# Altium schematic symbol library RP2040.SCHLIB: 17 symbols
Pins are listed as number, name and electrical type; pins without a type are passive.

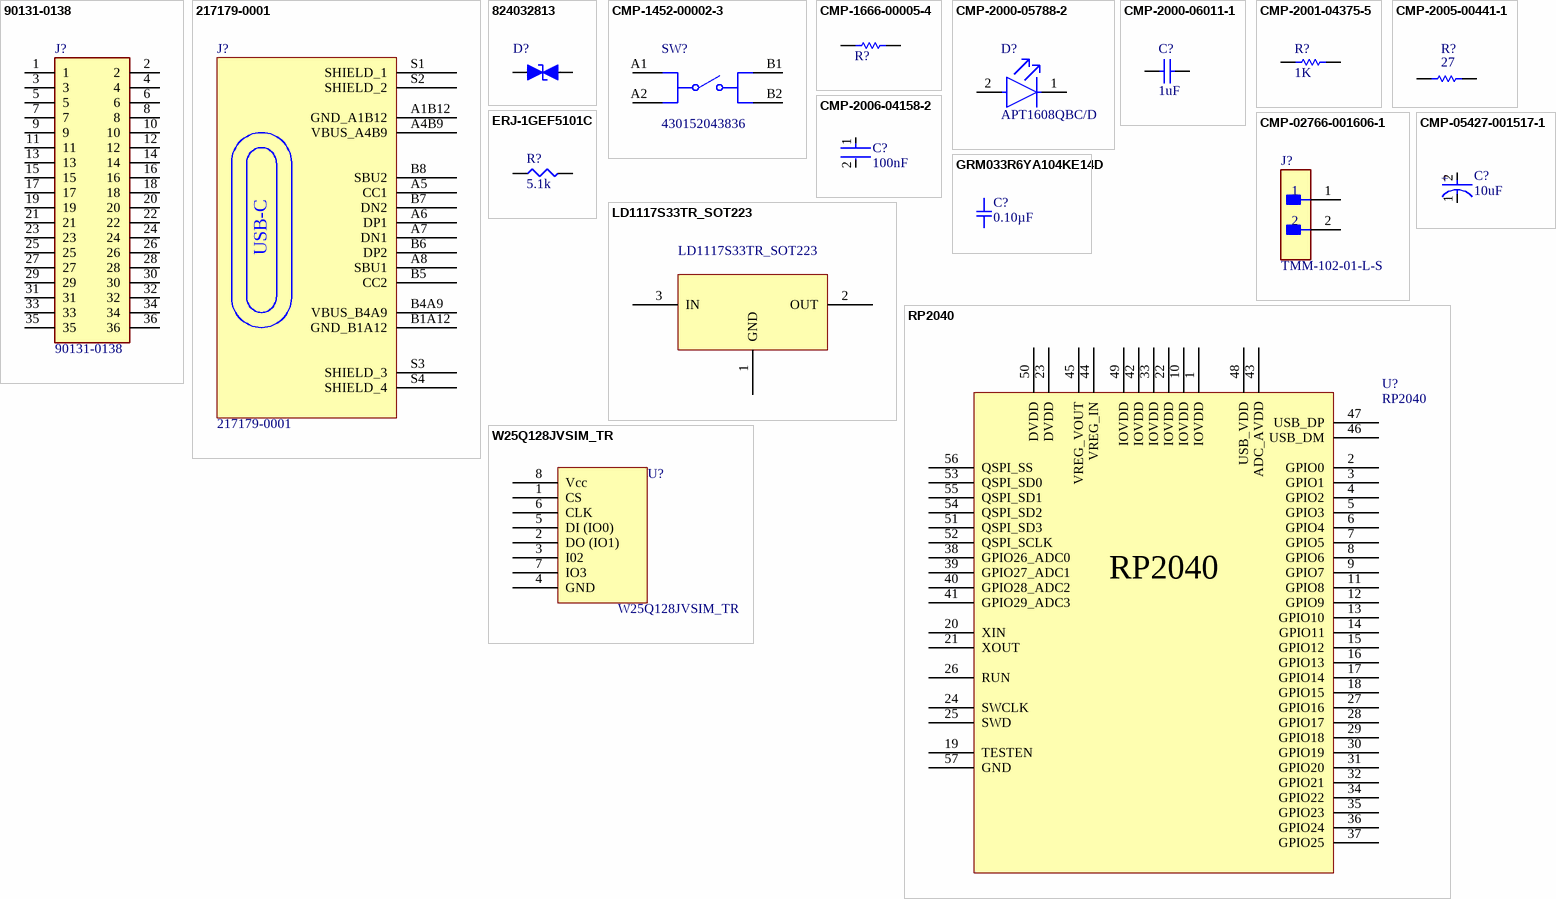
[diagram p0: symbols 90131-0138 to W25Q128JVSIM_TR]

## 90131-0138
designator J?
Header 2.54mm, dual row, vertical, 36w Molex C-GRID III Series, Series Number 90131, 2.54mm Pitch 36 Way 2 Row Straight Pin Header, Through Hole; Geometry.Height: 5.48mm; Mouser Part Number: 538-90131-0138; Mouser Price/Stock: https://www.mouser.co.uk/ProductDetail/Molex/90131-0138?qs=kEwmkoUtv7TTuQKvm8pfBw%3D%3D; Manufacturer_Name: Molex; Manufacturer_Part_Number: 90131-0138; Datasheet Link: https://datasheet.datasheetarchive.com/originals/distributors/Datasheets_SAMA/7a173d74aa55f13dc2780a0da764715b.pdf
footprint HDRV36W90P254_2X18_4572X508X548P
pins: 1, 2, 3, 4, 5, 6, 7, 8, 9, 10, 11, 12, 13, 14, 15, 16, 17, 18, 19, 20, 21, 22, 23, 24, 25, 26, 27, 28, 29, 30, 31, 32, 33, 34, 35, 36

## 217179-0001
designator J?
footprint FP-2171790001-MFG
footprint FP-2171790001-MFG
footprint FP-2171790001-MFG
footprint GCT_USB4110GFA
pins: A1B12 GND_A1B12, A4B9 VBUS_A4B9, A5 CC1, A6 DP1, A7 DN1, A8 SBU1, B1A12 GND_B1A12, B4A9 VBUS_B4A9, B5 CC2, B6 DP2, B7 DN2, B8 SBU2, S1 SHIELD_1, S2 SHIELD_2, S3 SHIELD_3, S4 SHIELD_4
text: USB-C

## 824032813
designator D?, comment 3.3V  (value not drawn)
WE-TVS TVS Diode Standard Series, SMT, DFN1610-2L, 3.3V, 1Channel; Manufacturer Part Number: 824032813; Manufacturer: Wurth Elektronik; Channel ESD Clamping Voltage: 4.7V; (Channel) Input Capacitance: 280pF; ESD Contact Discharge Capability: 30kV; Number of Channels: 1; Polarity: Bidirectional; (Reverse) Breakdown Voltage: 4 V; (Reverse) Peak Pulse Current: 180A; Category: ESD Protection; Match Code: WE-TVS; ComponentLink1Description: Website Link; ComponentLink1URL: https://www.we-online.com/redexpert/article/824032813?ad; ComponentLink2Description: Datasheet Link; ComponentLink2URL: https://www.we-online.com/redexpert/spec/824032813?ad; Mount: Surface Mount; Operating Temperature Min: 85degC; Operating Temperature Max: -55degC; Packaging: Tape and Reel; Case/Size Code: DFN1610-2L; Length: 1.6mm; Width: 1mm; Height: 0.5mm; Channel Operating Voltage: 3.3V
footprint WE-TVS_DFN1610-2L
pins: 1 I/O 1, 2 GND

## CMP-1452-00002-3
designator SW?, comment 430152043836
Switch Tactile Spst-no 0.05A 12V; Switch Function: Off-Mom; Mechanical Life: 200kcycles; Illumination Type: Illuminated, Non-Illuminated; Contact Current Rating: 50mA; Actuator Material: Liquid Crystal Polymer, Polymer; Actuator Length: 900µm; Switch Travel: 250µm; Insulation Resistance: 100MΩ; Throw Configuration: SPST; Diameter: 3.5mm; Height: 4.3mm; Width: 6.2mm; REACH SVHC: No SVHC; Contact Plating: Silver; Max Operating Temperature: 85°C; RoHS: Compliant; Packaging: Tape and Reel; Min Operating Temperature: -40°C; Length: 6.2mm; Mount: Surface Mount; Current Rating: 50mA; Voltage Rating: 12V; Contact Material: Stainless Steel, Steel; Termination: Gull Wing; Color: Orange
footprint 430152043836
pins: A1, A2, B1, B2

## CMP-1666-00005-4
designator R?, comment CRCW060310K0FKEA  (value not drawn)
Chip Resistor, 10 KOhm, +/- 1%, 100 mW, -55 to 155 degC, 0603 (1608 Metric), RoHS, Tape and Reel; Manufacturer: Vishay Semiconductor; Voltage Rating: 75 V; Max Operating Temperature: 155 degC; PackageDescription: 2-Pin Surface Mount Device, Body 1.575 x 0.85 mm; ComponentLink1Description: Manufacturer URL; RoHSCompliant: true; PackageReference: 0603; REACH SVHC: Unknown; Length: 1.55 mm; DatasheetVersion: 06/2012; Packaging: Tape and Reel; Min Operating Temperature: -55 degC; Mounting Technology: Surface Mount; ComponentLink2URL: https://datasheet.ciiva.com/11809/0900766b80d98afc-11809037.pdf; Height: 0.45 mm; ComponentLink2Description: Datasheet; Package Quantity: 5000; ComponentLink1URL: http://www.vishay.com/
footprint RESC1609X50X30NL8T20 (Chip Resistor, 2-Leads, Body 1.65x0.95mm, IPC Medium Density)
footprint RESC1609X50X30ML8T20 (Chip Resistor, 2-Leads, Body 1.65x0.95mm, IPC Low Density)
footprint RESC1609X50X30LL8T20 (Chip Resistor, 2-Leads, Body 1.65x0.95mm, IPC High Density)
pins: 1, 2

## CMP-2000-05788-2
designator D?, comment APT1608QBC/D
LED BLUE CLEAR CHIP SMD; Lens Style: Flat; Forward Current: 20mA; Luminous Intensity: 100mcd; Number of LEDs: 1; Dominant Wavelength: 465nm; Lens Color: Colorless; Forward Voltage: 3.3V; Viewing Angle: 120°; Case Code (Imperial): 0603; Number of Pins: 2; Length: 1.6mm; Mount: Surface Mount; Color: Blue; Width: 0.8mm; Height: 0.75mm; Case/Package: 0603; Lead Free: Lead Free; Case Code (Metric): 1608; Lens Transparency: Clear; Min Operating Temperature: -40°C; Packaging: Tape and Reel; Max Operating Temperature: 85°C; Package Quantity: 2000; Test Current: 20mA; Illumination Color: Blue; ComponentLink1Description: Product page; ComponentLink1URL: https://www.mouser.pl/ProductDetail/Kingbright/APT1608QBC-D?qs=f499HRGa1RntVOgIsJz2RQ%3D%3D
footprint FP-APT1608QBC-D-MFG
pins: 1 C, 2 A

## CMP-2000-06011-1
designator C?, comment 1uF
Chip Capacitor, 1 uF, +/- 10%, 50 V, -55 to 125 degC, 1206 (3216 Metric), RoHS, Tape and Reel; Manufacturer: Kemet; Case Height: 1mm; Dielectric: X7R; Voltage Rating: 50V; Temperature Coefficient / Code: +/-15%; Case Length: 3.2mm; Case Width: 1.6mm; Type: SMDMLCCX7R6.3-250VDCCommericalGrade; Class: Class1; Capacitance - nF: 1000nF; Datasheet URL: http://www.kemet.com/docfinder?Partnumber=C1206C105K5RACTU; Product Category: MultilayerCeramicCapacitorsMLCC-SMD/SMT; Capacitance: 1uF; Termination Style: SMD/SMT; Dimensions: 1.6mmWx3.2mmLx1mmH; Voltage Rating DC: 50V; Datasheet Version: 02/2016; Packaging: Reel; Brand: Kemet; RoHS: Details; Minimum Operating Temperature: -55C; Operating Temperature Range: -55Cto+125C; Package Reference: 1206; Manufacturer URL: http://www.kemet.com/; Product: GeneralTypeMLCCs; Tolerance: 10%; Package Description: 2-Pin Surface Mount Device, Body 3.2 x 1.6 mm; Mounting Technology: SurfaceMount; Case Code - mm: 3216; Maximum Operating Temperature: +125C; Series: C1206C; Factory Pack Quantity: 2500; Package / Case: 1206(3216metric); Case Code - in: 1206; ComponentLink1Description: Product Page; ComponentLink1URL: https://www.mouser.pl/ProductDetail/KEMET/C1206C105K5RACTU?qs=STjISULpmtb6FskosHpJdg%3D%3D
footprint CAPC3216X110X50LL20T25 (Chip Capacitor, 2-Leads, Body 3.20x1.60mm, IPC High Density)
footprint CAPC3216X110X50ML20T25 (Chip Capacitor, 2-Leads, Body 3.40x1.80mm, IPC Low Density)
footprint CAPC3216X110X50NL20T25 (Chip Capacitor, 2-Leads, Body 3.40x1.80mm, IPC Medium Density)
pins: 1, 2

## CMP-2001-04375-5
designator R?, comment 1K
Chip Resistor, 1 KOhm, +/- 1%, 0.125 W, -55 to 155 degC, 0805 (2012 Metric), RoHS, Tape and Reel; Manufacturer: Panasonic; Voltage Rating: 150 V; ComponentLink1URL: http://www.panasonic.com/; ComponentLink2Description: Datasheet; REACH SVHC: Yes; ComponentLink1Description: Manufacturer URL; Length: 2 mm; Height: 0.6 mm; Package Quantity: 1; PackageDescription: 2-Pin Surface Mount Device, Body 2 x 1.25 mm; Packaging: Cut Tape; PackageReference: 0805; Max Operating Temperature: 155 degC; Mounting Technology: Surface Mount; ComponentLink2URL: http://industrial.panasonic.com/cdbs/www-data/pdf/RDA0000/AOA0000C86.pdf; DatasheetVersion: 04/2015; Min Operating Temperature: -55 degC; RoHSCompliant: true; Mount: Surface Mount
footprint RESC2013X70X40ML20T20 (Chip Resistor, 2-Leads, Body 2.00x1.25mm, IPC Low Density)
footprint RESC2013X70X40LL20T20 (Chip Resistor, 2-Leads, Body 2.00x1.25mm, IPC High Density)
footprint RESC2013X70X40NL20T20 (Chip Resistor, 2-Leads, Body 2.2x1.35mm, IPC Medium Density)
pins: 1, 2

## CMP-2005-00441-1
designator R?, comment 27
Part Number: CRCW121027R0FKEAHP; Manufacturer: Vishay Dale; ComponentLink1Description: Product page; ComponentLink1URL: https://www.mouser.pl/ProductDetail/Vishay-Dale/CRCW121027R0FKEAHP?qs=OAzHGkhREL1EUBG8sa8tYA%3D%3D
footprint RESC3225X60X45NL20T20 (Chip Resistor, 2-Leads, Body 3.20x2.50mm, IPC Medium Density)
footprint RESC3225X60X45LL20T20 (Chip Resistor, 2-Leads, Body 3.20x2.50mm, IPC High Density)
footprint RESC3225X60X45ML20T20 (Chip Resistor, 2-Leads, Body 3.20x2.50mm, IPC Low Density)
pins: 1, 2
1 alternate drawing of the same symbol

## CMP-2006-04158-2
designator C?, comment 100nF
General Purpose Ceramic Capacitor, 0603, 100nF, 10%, X7R, 15%, 25V; Number of Pins: 2; Radiation Hardening: No; Construction: Flat; Package Quantity: 1; Mount: Surface Mount; RoHS Compliant: Yes; Height: 0.94mm; Dielectric: X7R; Packaging: Tape and Reel; Case/Package: 0603; Series: FLEXITERM®; Depth: 0.81mm; REACH SVHC: No SVHC; Capacitance: 100nF; Tolerance: 10%; Max Operating Temperature: 125°C; Features: Soft Termination; Case Code (Metric): 1608; Lead Free: Lead Free; Termination: SMD/SMT; Case Code (Imperial): 0603; Min Operating Temperature: -55°C; Thickness: 0.035inch; Voltage Rating (DC): 25V; Width: 0.032inch; Length: 1.6mm; Voltage Rating: 25V; ComponentLink1Description: Product page; ComponentLink1URL: https://www.mouser.pl/ProductDetail/KYOCERA-AVX/KGF15AR71E104KT?qs=Jm2GQyTW%2FbhgeBrrzHnuTw%3D%3D
footprint FP-0603-L_1_6_0_15-W_0_81-IPC_B
footprint FP-0603-L_1_6_0_15-W_0_81-IPC_A
footprint FP-0603-L_1_6_0_15-W_0_81-MFG
footprint FP-0603-L_1_6_0_15-W_0_81-IPC_C
pins: 1, 2

## CMP-02766-001606-1
designator J?, comment TMM-102-01-L-S
CONN HEADER VERT 2POS 2MM; Number of Positions: 2; Gender: Male; Max Current Rating: 3.9A; Max Voltage Rating (AC): 500V; Housing Color: Black; Max Operating Temperature: 125°C; Housing Material: Polymer; Length: 4mm; Contact Material: Bronze; Connector Type: Header; REACH SVHC: No SVHC; Contact Type: Male Pin; Contact Finish - Mating: GOLD; RoHS Compliant: Yes; Fastening Type: Pull; Depth: 1.97mm; Min Operating Temperature: -55°C; Number of Rows: 1; Radiation Hardening: No; Orientation: Straight; Termination: Solder; Number of Contacts: 2; Contact Shape: Square; Insulation Material: Polymer; Pitch: 2mm; Lead Free: Lead Free; Packaging: Bulk; Contact Plating: Gold; Series: TMM; Insulation Color: Black
footprint FP-TMM-102-01-L-S-MFG
pins: 1, 2

## CMP-05427-001517-1
designator C?, comment 10uF
Aluminum Electrolytic Capacitors (Radial Lead Type) 10uF ±20% 63V; Life (Hours): 2000Hour; Dielectric Material: Aluminium; Lead/Base Style: Straight; Ripple Current: 70mA; Dissipation Factor: 0.11%; Leakage Current: 3uA; Lead Diameter: 0.5mm; Max Operating Temperature: 85°C; Capacitance: 10uF; Voltage Rating: 63V; Packaging: Bulk; Radiation Hardening: No; Tolerance: 20%; Height: 11mm; Mount: Through Hole; Voltage: 63V; Voltage Rating (DC): 63V; Lead Pitch: 2mm; RoHS Compliant: Yes; Diameter: 5mm; Package Quantity: 200; Length: 11mm; Case/Package: Radial; Min Operating Temperature: -40°C; Construction: RADIAL; Height - Seated (Max): 0.472inch; Lead Free: Lead Free; Termination: Radial; Width: 5mm; Series: M; REACH SVHC: No SVHC; ComponentLink1Description: Product page; ComponentLink1URL: https://www.mouser.pl/ProductDetail/Panasonic/ECA-1JM100?qs=GLrprNoX4E2EQlKNU8hiKw%3D%3D
footprint FP-RAD-TH-D_5_0_5-L_11_1-MFG
pins: 1 C, 2 A
text: +

## ERJ-1GEF5101C
designator R?, comment 5.1k
RES SMD 5.1K OHM 1% 1/20W 0201; Part Number: ERJ-1GEF5101C; Manufacturer: Panasonic Electronic Components; Factory Stock: 0; Unit Price (USD): 0.00933; @ qty: 1500; Minimum Quantity: 1; Power (Watts): 0.05W, 1/20W; Temperature Coefficient: ±200ppm/°C; Datasheets: //media.digikey.com/pdf/Data%20Sheets/Panasonic%20Resistors%20Thermistors%20PDFs/ERJ_G,R,E_Rev08.pdf; Image: //media.digikey.com/Renders/Panasonic%20Renders/ERJ-0201%20Pkg.jpg; Digi-Key Part Number: P5.10KABCT-ND; Quantity Available: 106914; Packaging: Cut Tape (CT); Series: ERJ; Part Status: Active; Value: 5.1k; Tolerance: ±1%; Composition: Thick Film; Features: -; Operating Temperature: -55°C ~ 125°C; Package / Case: 0201 (0603 Metric); Supplier Device Package: 0201; Size / Dimension: 0.024" L x 0.012" W (0.60mm x 0.30mm); Height - Seated (Max): 0.010" (0.26mm); Number of Terminations: 2; Failure Rate: -
footprint SMD-0201-RES
pins: 1, 2

## GRM033R6YA104KE14D
designator C?, comment 0.10µF
CAP CER 0.1UF 35V X5R 0201; Part Number: GRM033R6YA104KE14D; Manufacturer: Murata Electronics North America; Factory Stock: 0; Unit Price (USD): 0.1; Minimum Quantity: 1; Tolerance: ±10%; Datasheets: http://www.murata.com/~/media/webrenewal/support/library/catalog/products/capacitor/mlcc/c02e.pdf; Image: //media.digikey.com/Renders/Murata%20Renders/ZRB-SERIES-0402.jpg; Digi-Key Part Number: 490-10430-1-ND; Quantity Available: 2508; @ qty: 0; Packaging: Cut Tape (CT); Series: GRM; Part Status: Active; Value: 0.10µF; Voltage: 35V; Temperature Coefficient: X5R; Operating Temperature: -55°C ~ 85°C; Features: Derating Recommended; Ratings: -; Applications: General Purpose; Failure Rate: Surface Mount, MLCC; Mounting Type: 0201 (0603 Metric); Package / Case: 0.024" L x 0.012" W (0.60mm x 0.30mm); Size / Dimension: -; Height - Seated (Max): 0.013" (0.33mm); Thickness (Max): -; Lead Spacing: -
footprint SMD-0201C
pins: 1, 2

## LD1117S33TR_SOT223
designator *?
ComponentLink1Description: Porduct Page; ComponentLink1URL: https://www.mouser.pl/ProductDetail/STMicroelectronics/LD1117S33TR?qs=edoyzKMbmhntQZx4BFmoqw%3D%3D&srsltid=AfmBOopJi3LB3peg_FlVlHW7WiJkI0OzShwHaU-O8vN4gRXGrtGiI6EN
footprint SOT230P700X180-4M (SOT223, 4-Leads, Body 6.50x7.00mm (avg), Pitch 2.30mm, IPC Low Density)
pins: 1 GND, 2 OUT, 3 IN

## RP2040
designator U?
footprint RP2040
pins: 1 IOVDD, 2 GPIO0, 3 GPIO1, 4 GPIO2, 5 GPIO3, 6 GPIO4, 7 GPIO5, 8 GPIO6, 9 GPIO7, 10 IOVDD, 11 GPIO8, 12 GPIO9, 13 GPIO10, 14 GPIO11, 15 GPIO12, 16 GPIO13, 17 GPIO14, 18 GPIO15, 19 TESTEN, 20 XIN, 21 XOUT, 22 IOVDD, 23 DVDD, 24 SWCLK, 25 SWD, 26 RUN, 27 GPIO16, 28 GPIO17, 29 GPIO18, 30 GPIO19, 31 GPIO20, 32 GPIO21, 33 IOVDD, 34 GPIO22, 35 GPIO23, 36 GPIO24, 37 GPIO25, 38 GPIO26_ADC0, 39 GPIO27_ADC1, 40 GPIO28_ADC2, 41 GPIO29_ADC3, 42 IOVDD, 43 ADC_AVDD, 44 VREG_IN, 45 VREG_VOUT, 46 USB_DM, 47 USB_DP, 48 USB_VDD, 49 IOVDD, 50 DVDD, 51 QSPI_SD3, 52 QSPI_SCLK, 53 QSPI_SD0, 54 QSPI_SD2, 55 QSPI_SD1, 56 QSPI_SS, 57 GND

## W25Q128JVSIM_TR
designator U?
ComponentLink1Description: Product Page; ComponentLink1URL: https://www.mouser.pl/ProductDetail/Winbond/W25Q128JVSIM-TR?qs=qSfuJ%252Bfl%2Fd6ji9IuruL6Zg%3D%3D
footprint SOIC127P790X216-8N (SOIC, 8-Leads, Body 5.28x5.28mm, Pitch 1.27mm, IPC Medium Density)
pins: 1 CS, 2 DO (IO1), 3 I02, 4 GND, 5 DI (IO0), 6 CLK, 7 IO3, 8 Vcc